# Altium footprint library ADXL335_Sparkfun.PcbLib: 1 footprints
Each footprint in its own frame and in the unit in brackets; x right, y up, seen from the top. Pads: shape width x height; smd on the part's side, far side on the other; paste and mask are expansions set on the pad; w line width, h text height; cw(c..) or ccw(c..) is an arc to the next point about the centre after c.
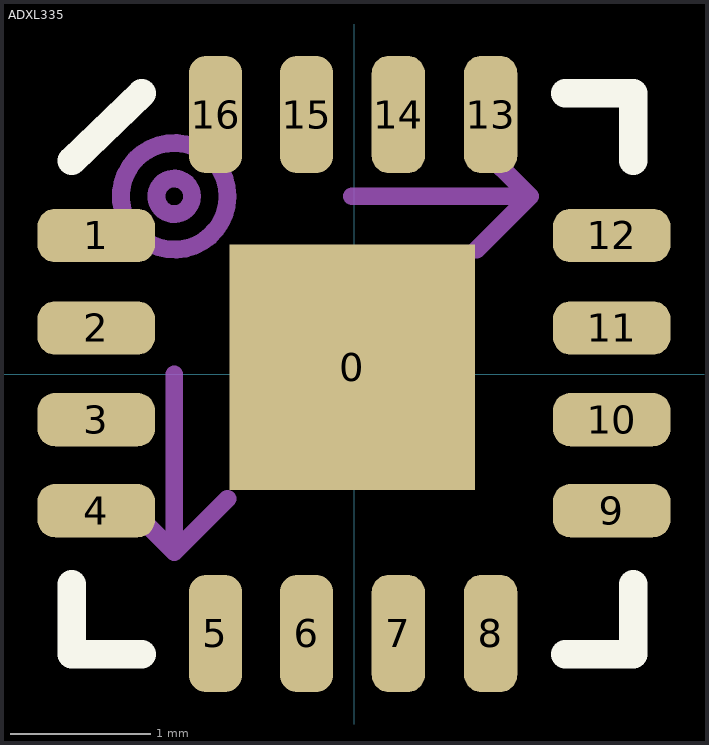
[diagram p0: the footprint, top view; thin cyan lines are the x and y axes]

## ADXL335 [mil]
pads (17):
  rect 69x69 smd: 0(-0.55,1.95)
  rrect65% 33x15 smd: 1(-72.45,38.95) 2(-72.45,12.95) 3(-72.45,-12.85) 4(-72.45,-38.42) 9(72.45,-38.42) 10(72.45,-12.85) 11(72.45,12.95) 12(72.45,38.95)
  rrect65% 15x33 smd: 5(-38.94,-72.95) 6(-13.35,-72.95) 7(12.45,-72.95) 8(38.43,-72.95) 13(38.43,72.95) 14(12.45,72.95) 15(-13.35,72.95) 16(-38.92,72.95)
Top Overlay:
  lines w8: -79.29,-59.11 -79.29,-78.79 -59.61,-78.79 ; -79.29,59.95 -59.61,78.95 ; 59.45,-78.79 78.45,-78.79 78.45,-59.11 ; 59.45,78.95 78.45,78.95 78.45,59.95
Top Paste:
  rectangle: -10.39,-9.89 9.45,9.95
Mechanical 2:
Mechanical 16:
  circle w5: c-50.55,49.95 r15
  circle w5: c-50.55,49.95 r5
  lines w5: -65.55,-35.05 -50.55,-50.05 ; -50.55,-0.05 -50.55,-50.05 ; -35.55,-35.05 -50.55,-50.05 ; -0.55,49.95 49.45,49.95 ; 34.45,34.95 49.45,49.95 ; 34.45,64.95 49.45,49.95
  text "X" at -55.55,4.95 h31
  text "Z" at -80.55,54.95 h31
  text "Y" at -0.55,54.95 h31